# Altium footprint library Lipol_battery_charger.PcbLib: 4 footprints
Each footprint in its own frame and in the unit in brackets; x right, y up, seen from the top. Pads: shape width x height; smd on the part's side, far side on the other; paste and mask are expansions set on the pad; w line width, h text height; cw(c..) or ccw(c..) is an arc to the next point about the centre after c.
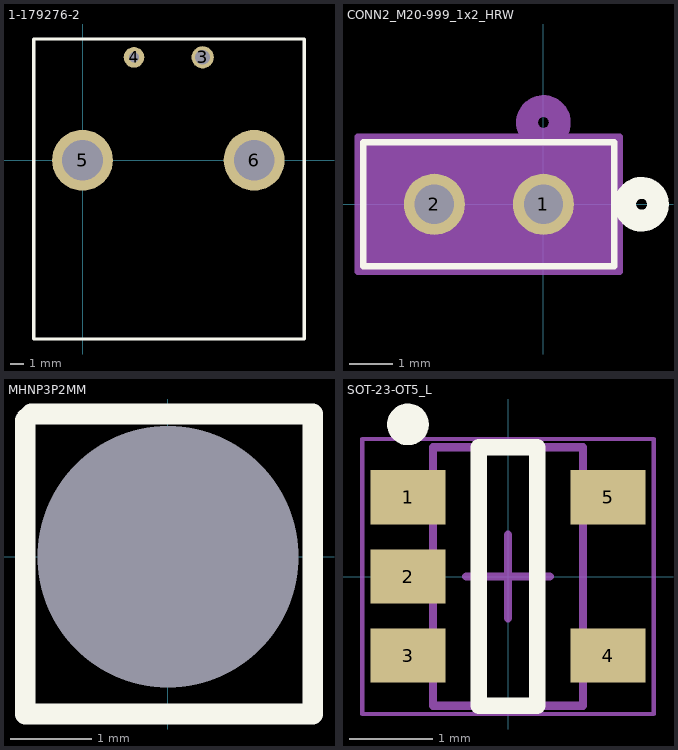
[diagram p0: the footprints below, top view; thin cyan lines are the x and y axes]

## 1-179276-2 [mm] "2_PCS_HDR_19.08X22.1MM"
height 9.35
pads (4):
  round 1.65 hole 1.1: 3(8.89,7.62)
  round 1.524 hole 0.762: 4(3.81,7.62)
  round 4.5 hole 3: 5(0,0) 6(12.7,0)
Top Overlay:
  lines w0.254: -3.6,-1.925 -3.6,8.975 16.4,8.975 16.4,-13.225 -3.6,-13.225 -3.6,-0.825
  text ".Designetor" at 0.3,9.225 h1.52
3D body "c-0179276-12-b-3d.stp": height 10.86, standoff -3.79, extent -3.065,-13.325 16.015,8.775

## CONN2_M20-999_1x2_HRW [mil]
pads (2):
  round 56 / inner round 60 / far side round 56 hole 36 paste-99999 mask+0: 1(0,0) 2(-100,0)
Top Overlay:
  circle w20: c90,0 r15
  lines w6: -165,-57 -165,57 65,57 65,-57 -165,-57
Bottom Overlay:
  circle w20: c90,0 r15
Mechanical 13:
  circle w20: c0,75 r15
  lines w1: -160,-52 -160,52 60,52 60,-52 -160,-52
Mechanical 15:
  region: 70,62 -170,62 -170,-62 70,-62
  lines w6: -170,-62 70,-62 70,62 -170,62 -170,-62

## MHNP3P2MM [mm] "Mountimg hole non plated 3.2mm"
pads (1):
  round 1 hole 3.2: ""(0,0)
Top Overlay:
  lines w0.254: -1.75,-1.925 1.775,-1.925 1.775,0.1 1.775,1.75 -1.675,1.75 -1.75,1.675 -1.75,-1.925

## SOT-23-OT5_L [mm] "SOT23, 5-Leads, Body 2.9x1.7mm, Pitch 0.95mm, Lead Span 2.8mm, IPC High Density"
height 1.45
pads (5):
  rect 0.9x0.65 smd: 1(-1.2,0.95) 2(-1.2,0) 3(-1.2,-0.95) 4(1.2,-0.95) 5(1.2,0.95)
Top Overlay:
  circle w0.25: c-1.2,1.825 r0.125
  lines w0.2: -0.35,-1.55 0.35,-1.55 0.35,1.55 -0.35,1.55 -0.35,-1.55
Mechanical 13:
  lines w0.1: -0.9,-1.55 -0.9,1.55 0.9,1.55 0.9,-1.55 -0.9,-1.55
Mechanical 15:
  lines w0.05: -1.75,-1.65 -1.75,1.65 1.75,1.65 1.75,-1.65 -1.75,-1.65
  lines w0.1: -0.5,0 0.5,0 ; 0,-0.5 0,0.5
3D body: height 1.45, standoff 0, extent -0.9,-1.55 0.9,1.55